# EAGLE library part WBL-2U_S (library switch-e-switch)
2PDT PUSHBUTTON SWITCH
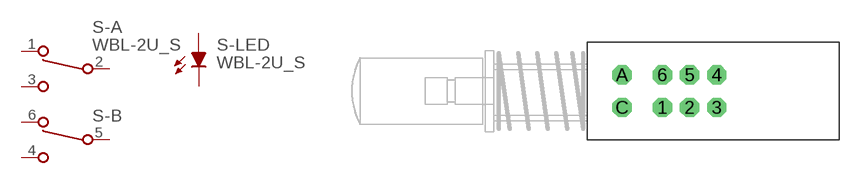
[diagram p6: symbol with the pads of WBL-2U; footprint WBL-2U]

Designator prefix S; gates -A=1PDT-NV -B=1PDT-N -LED=LED

## WBL-2U_S  [WBL-2U]
1  -A:A-NC  pas
2  -A:A-COM  pas
3  -A:A-NO  pas
4  -B:A-NO  pas
5  -B:A-COM  pas
6  -B:A-NC  pas
A  -LED:A  pas
C  -LED:C  pas

## Footprint WBL-2U (pad centres in mm)
PUSH BUTTON SWITCH 2PDT w/LED
drill 0.813 pad 1.778 octagon: 1 -2.5,-1.5; 2 0,-1.5; 3 2.5,-1.5; 4 2.5,1.5; 5 0,1.5; 6 -2.5,1.5; A -6.2,1.5; C -6.2,-1.5